# EAGLE library part TPS62177 (library derek)
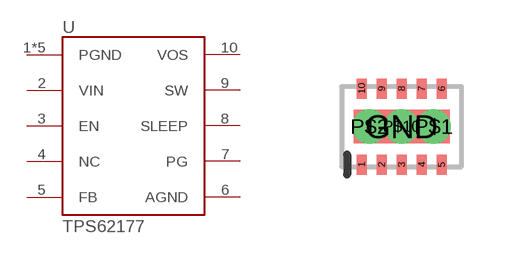
[diagram p2: symbol with the pads of P-WSON(10); footprint P-WSON(10)]

Designator prefix U

## TPS62177 (DATASHEET_URL: http://www.ti.com/lit/ds/symlink/tps62177.pdf; DIGIKEY_PART_NUMBER: 296-41856-1-ND; MANUFACTURER: Texas Instruments; PART_NUMBER: TPS62177DQCR)  [P-WSON(10)]
1  PGND
2  VIN
3  EN
4  NC
5  FB
6  AGND
7  PG
8  SLEEP
9  SW
10  VOS
GND  PGND
P$1  PGND
P$2  PGND
P$10  PGND

## Footprint P-WSON(10) (pad centres in mm)
smd 0.25 x 0.5: 1 -1,-0.95; 2 -0.5,-0.95; 3 0,-0.95; 4 0.5,-0.95; 5 1,-0.95; 6 1,0.95; 7 0.5,0.95; 8 0,0.95; 9 -0.5,0.95; 10 -1,0.95
smd 2.4 x 0.84: GND 0,0
drill 0.35: P$1 0.8,0; P$2 -0.8,0; P$10 0,0